# Altium footprint library ebf EP4CE10 Pro_20200309_PCB库_AD格式.PcbLib: 62 footprints (part 4 of 4)
Each footprint in its own frame and in the unit in brackets; x right, y up, seen from the top. Pads: shape width x height; smd on the part's side, far side on the other; paste and mask are expansions set on the pad; w line width, h text height; cw(c..) or ccw(c..) is an arc to the next point about the centre after c.
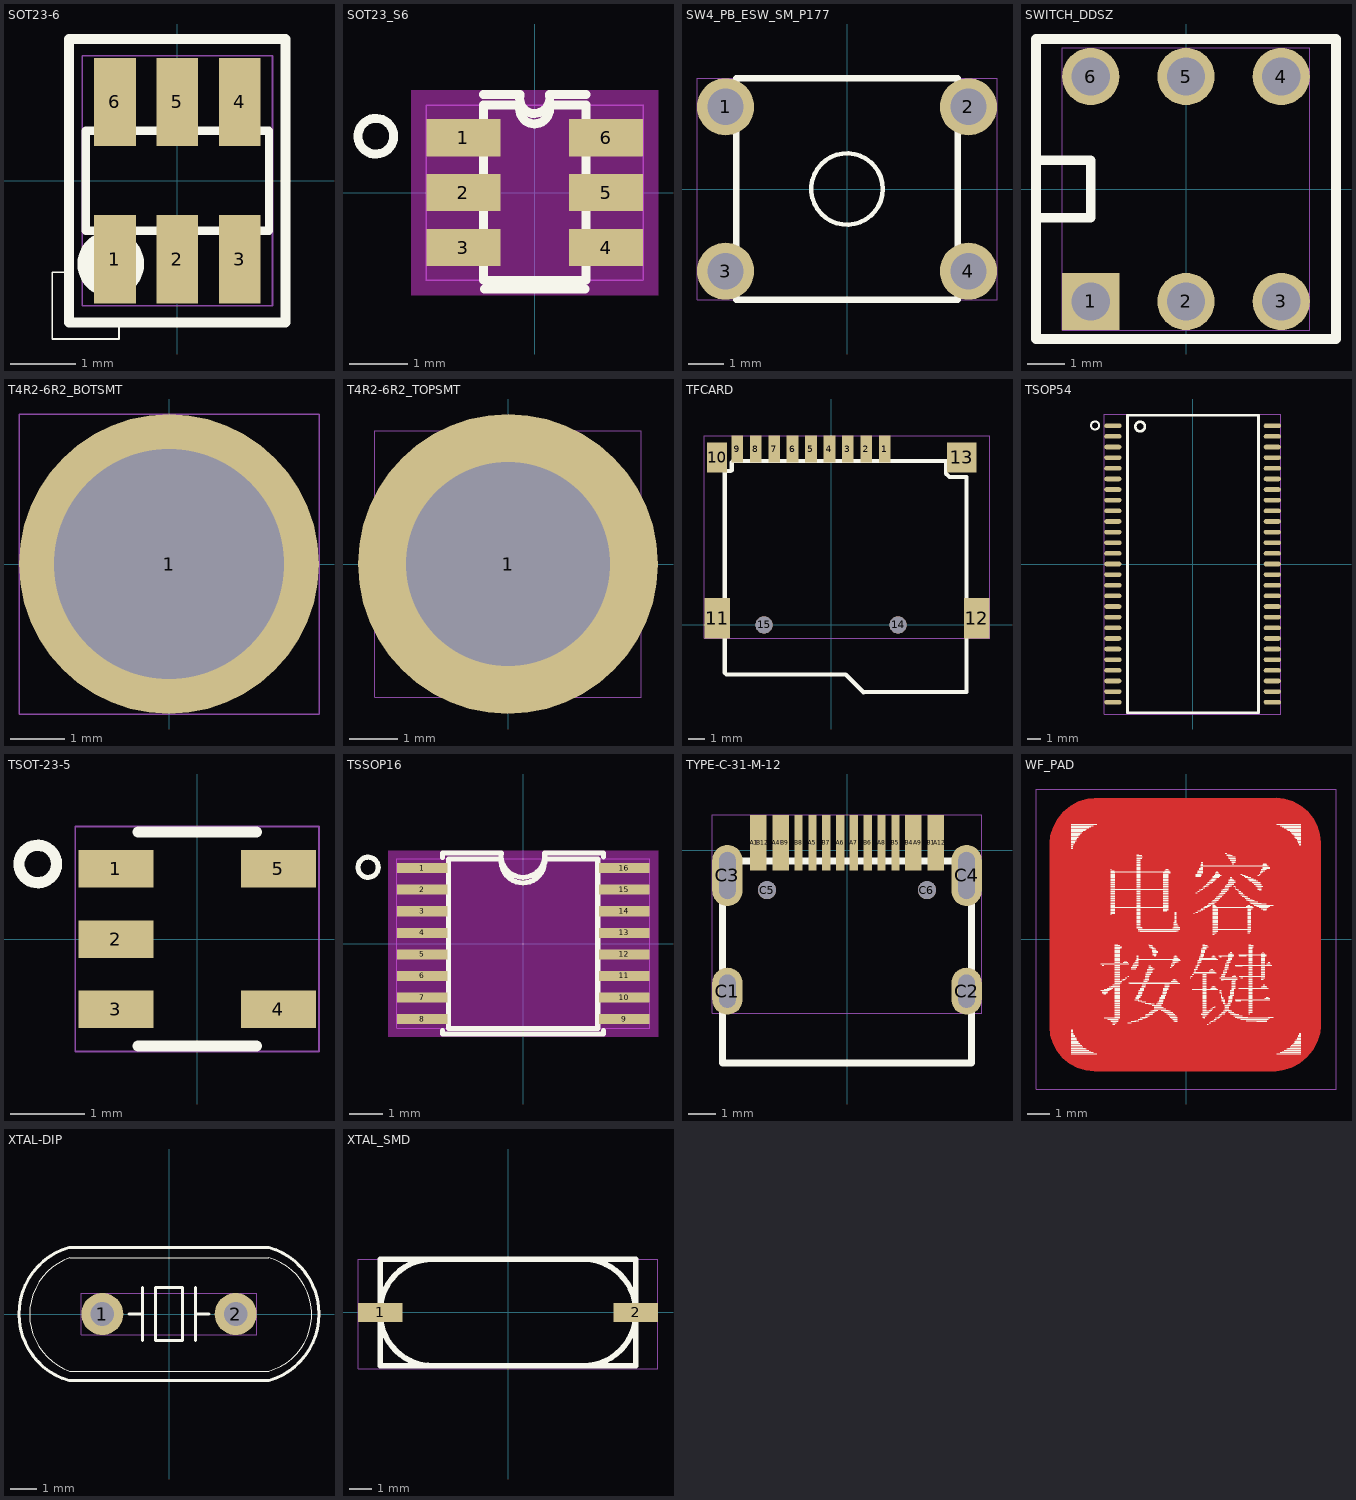
[diagram p3: the footprints below, top view; thin cyan lines are the x and y axes]

## SOT23-6 [mil]
pads (6):
  rect 25x53 smd mask+3: 1(-37.4,-47.2) 2(0,-47.2) 3(37.4,-47.2) 4(37.4,47.2) 5(0,47.2) 6(-37.4,47.2)
Top Overlay:
  circle w20: c-40,-50 r10
  lines w1: -75,-95 -35,-95 -35,-85 -65,-85 -65,-55 -75,-55 -75,-95
  lines w5: -45,-30 -45,-60 -30,-60 -30,-30 ; -45,30 -45,60 -30,60 -30,30 ; -7.5,-30 -7.5,-60 7.5,-60 7.5,-30 ; -7.5,30 -7.5,60 7.5,60 7.5,30 ; 30,-30 30,-60 45,-60 45,-30 ; 30,30 30,60 45,60 45,30 ; -55,-30 -55,30 55,30 55,-30 -55,-30
  lines w6: -65,-85 -65,85 65,85 65,-85 -65,-85
Top Assembly:
  text "U28" at -62.49,-25 h50
Mechanical 20:
  lines w1: -57.1,-75 -57.1,75 57.1,75 57.1,-75 -57.1,-75

## SOT23_S6 [mil]
pads (6):
  rect 50x25 smd mask+2: 1(-48,37) 2(-48,0) 3(-48,-37) 4(48,-37) 5(48,0) 6(48,37)
Top Layer keep-out:
  region: -83.1,-69 -83.1,69 83,69 83,-69
Top Overlay:
  circle w6: c-107.02,37.99 r12.02
  lines w6: -34.5,66 -10,66 ; -34,-65 34,-65 ; -10,58 ccw(c-0.2,56.25) -0.2,46.3 ccw(c-0.21,56.6) 10,58 9.8,58.3 ; -10,59 -34.5,59 -34.5,-59 34.5,-59 34.5,59 10,59 ; -10,65 ccw(c-0.2,63.25) -0.2,53.3 ccw(c-0.21,63.6) 10,65 9.8,65.3 ; 10,66 34.5,66
Top Assembly:
  text "U27" at -62.49,-25 h50
Mechanical 20:
  lines w1: -73,-59 -73,59 73,59 73,-59 -73,-59

## SW4_PB_ESW_SM_P177 [mil]
pads (4):
  round 63 hole 40 mask+2.5: 1(-133.9,90.6) 2(133.9,90.6) 3(-133.9,-90.6) 4(133.9,-90.6)
Top Overlay:
  circle w5: c0,0 r39.4
  lines w7: -122.1,-122.1 122.1,-122.1 122.1,122.1 -122.1,122.1 -122.1,-122.1
Top Assembly:
  text "SW5" at -67.72,-25 h50
Mechanical 20:
  lines w1: -165.4,-122.1 165.4,-122.1 165.4,122.1 -165.4,122.1 -165.4,-122.1

## SWITCH_DDSZ [mil]
pads (6):
  rect 60x60 / inner round 60 / far side rect 60x60 hole 40 mask+2.5: 1(-100,-118.1)
  round 60 hole 40 mask+2.5: 2(0,-118.1) 3(100,-118.1) 4(100,118.1) 5(0,118.1) 6(-100,118.1)
Top Overlay:
  lines w10: -157.5,-30 -100,-30 -100,30 -157.5,30 ; -157.5,-157.5 -157.5,157.5 157.5,157.5 157.5,-157.5 -157.5,-157.5
Top Assembly:
  text "SW6" at -66.53,-25 h50
Mechanical 20:
  lines w1: -130,-148.1 130,-148.1 130,148.1 -130,148.1 -130,-148.1

## T4R2-6R2_BOTSMT [mil]
pads (1):
  round 216.5 / inner round 216.5 / far side round 244.1 hole 166.1 mask+2: 1(0,0)
Top Assembly:
  text "H9" at -39.04,-25 h50
Mechanical 20:
  lines w1: -108.3,-108.3 108.3,-108.3 108.3,108.3 -108.3,108.3 -108.3,-108.3

## T4R2-6R2_TOPSMT [mil]
pads (1):
  round 244.1 / inner round 216.5 / far side round 216.5 hole 166.1 mask+2: 1(0,0)
Top Assembly:
  text "H4" at -41.42,-25 h50
Mechanical 20:
  lines w1: -108.3,-108.3 108.3,-108.3 108.3,108.3 -108.3,108.3 -108.3,-108.3

## TFCARD [mil]
pads (15):
  rect 27.6x63 smd mask+1.95: 1(126,413.4) 2(82.7,413.4) 3(39.4,413.4) 4(-3.9,413.4) 5(-47.3,413.4) 6(-90.6,413.4) 7(-133.9,413.4) 8(-177.2,413.4) 9(-220.5,413.4)
  rect 47.2x70 smd mask+1.95: 10(-267.7,393.7)
  rect 60x95 smd mask+1.95: 11(-267.7,15.7) 12(342.5,15.7)
  rect 70x70 smd mask+1.95: 13(307.1,393.7)
  round 40 hole 40 unplated mask+2.5: 14(157.5,0) 15(-157.5,0)
Top Overlay:
  lines w10: -251.7,361.7 -235.7,361.7 -233.7,363.7 -233.7,381.7 -229.7,385.7 270.3,385.7 270.3,355.7 278.3,347.7 318.3,347.7 318.3,-157.5 76.3,-158.3 34.3,-116.3 -245.7,-116.3 -249.7,-112.3 -249.7,359.7 -251.7,361.7
Top Assembly:
  text "J10" at -53.32,-25 h50
Mechanical 20:
  lines w1: -297.7,-31.7 372.5,-31.7 372.5,444.9 -297.7,444.9 -297.7,-31.7

## TSOP54 [mil]
pads (54):
  oval 51.2x13.8 smd mask+1.95: 1(-236.2,409.4) 2(-236.2,377.9) 3(-236.2,346.5) 4(-236.2,315) 5(-236.2,283.5) 6(-236.2,252) 7(-236.2,220.5) 8(-236.2,189) 9(-236.2,157.5) 10(-236.2,126) 11(-236.2,94.5) 12(-236.2,63) 13(-236.2,31.5) 14(-236.2,0) 15(-236.2,-31.5) 16(-236.2,-63) 17(-236.2,-94.5) 18(-236.2,-126) 19(-236.2,-157.5) 20(-236.2,-189) 21(-236.2,-220.5) 22(-236.2,-252) 23(-236.2,-283.5) 24(-236.2,-315) 25(-236.2,-346.5) 26(-236.2,-377.9) 27(-236.2,-409.4) 28(236.2,-409.4) 29(236.2,-377.9) 30(236.2,-346.5) 31(236.2,-315) 32(236.2,-283.5) 33(236.2,-252) 34(236.2,-220.5) 35(236.2,-189) 36(236.2,-157.5) 37(236.2,-126) 38(236.2,-94.5) 39(236.2,-63) 40(236.2,-31.5) 41(236.2,0) 42(236.2,31.5) 43(236.2,63) 44(236.2,94.5) 45(236.2,126) 46(236.2,157.5) 47(236.2,189) 48(236.2,220.5) 49(236.2,252) 50(236.2,283.5) 51(236.2,315) 52(236.2,346.5) 53(236.2,377.9) 54(236.2,409.4)
Top Overlay:
  circle w7.9: c-155.51,407.09 r14.21
  circle w6: c-288.86,410.38 r12.06
  lines w7.9: -192.9,-440.9 195.3,-440.9 ; -192.9,-440.9 -192.9,440.9 ; -192.9,-440.9 195.3,-440.9 ; -192.9,-440.9 -192.9,440.9 ; -192.9,440.9 195.3,440.9 ; -192.9,440.9 195.3,440.9 ; 195.3,-440.9 195.3,440.9 ; 195.3,-440.9 195.3,440.9
Top Assembly:
  text "U7" at -40.23,-25 h50
Mechanical 20:
  lines w1: -261.8,-444.3 -261.8,444.3 261.8,444.3 261.8,-444.3 -261.8,-444.3

## TSOT-23-5 [mil]
pads (5):
  rect 40x20 smd mask+2.5: 1(-43.3,37.4) 2(-43.3,0) 3(-43.3,-37.4) 4(43.3,-37.4) 5(43.3,37.4)
Top Overlay:
  circle w6: c-85,40 r10
  lines w6: -31.5,-57.1 31.5,-57.1 -31.5,-57.1 ; -31.5,57.1 31.5,57.1 -31.5,57.1
Top Assembly:
  text "U5" at -40.23,-25 h50
Mechanical 20:
  lines w1: -65,-60 -65,60 65,60 65,-60 -65,-60

## TSSOP16 [mil]
pads (16):
  rect 60x12 smd mask+2: 1(-120,89.6) 2(-120,64) 3(-120,38.4) 4(-120,12.8) 5(-120,-12.8) 6(-120,-38.4) 7(-120,-64) 8(-120,-89.6) 9(120,-89.6) 10(120,-64) 11(120,-38.4) 12(120,-12.8) 13(120,12.8) 14(120,38.4) 15(120,64) 16(120,89.6)
Top Layer keep-out:
  region: -160,-110.5 -160,110.5 160,110.5 160,-110.5
Top Overlay:
  circle w6: c-184.02,90.59 r12.02
  lines w6: -95.5,-103 -95.5,-107.5 95.5,-107.5 95.5,-103 ; -95.5,102.5 -95.5,107.5 -26.3,107.5 ; -26,100.5 ccw(c-0.25,97.88) 25.5,100.5 88.5,100.5 88.5,-100.5 -88.5,-100.5 -88.5,100.5 -25.5,100.5 ; -26,107.52 ccw(c-0.25,104.63) 25.5,107.47 ; 25.5,107.5 95.5,107.5 95.5,103
Top Assembly:
  text "U25" at -62.49,-25 h50
Mechanical 20:
  lines w1: -150,-100.5 150,-100.5 150,100.5 -150,100.5 -150,-100.5

## TYPE-C-31-M-12 [mil]
pads (22):
  rect 11.8x78.7 smd mask+2: A1(-131.9,10.8) A4(-100.4,10.8) A5(-49.2,10.8) A6(-9.8,10.8) A7(9.8,10.8) A8(49.2,10.8) A9(100.4,10.8) A12(131.9,10.8) B1(120.1,10.8) B4(88.6,10.8) B5(68.9,10.8) B6(29.5,10.8) B7(-29.5,10.8) B8(-68.9,10.8) B9(-88.6,10.8) B12(-120.1,10.8)
  oval 43.3x66.9 hole 23.6 slot 47.2 at 90 deg mask+2: C1(-170.1,-200.6) C2(170.1,-200.6)
  oval 43.3x86.6 hole 23.6 slot 66.9 at 90 deg mask+2: C3(-170.1,-36) C4(170.1,-36)
  round 25.6 hole 25.6 unplated mask+1.95: C5(-113.8,-56.9) C6(113.8,-56.9)
Top Overlay:
  lines w10: -177.2,-302.9 -177.2,-15.6 177.2,-15.6 177.2,-302.9 -177.2,-302.9
Top Assembly:
  text "J1" at -24.28,-25 h50
Mechanical 20:
  lines w1: -191.7,-232.1 -191.7,50.2 191.7,50.2 191.7,-232.1 -191.7,-232.1

## WF_PAD [mil]
Top Layer:
  region: -241.28,170.87 -240.12,182.57 -235.35,198.32 -227.59,212.83 -217.15,225.55 -204.44,235.99 -189.92,243.74 -174.18,248.52 -162.47,249.67 -162.4,249.6 159.77,249.88 174.19,248.46 189.27,243.88 203.17,236.45 215.35,226.46 225.35,214.27 232.78,200.38 237.35,185.3 238.77,170.88 238.5,170.9 238.54,-155.17 237.47,-166.01 232.63,-181.97 224.77,-196.68 214.18,-209.58 201.29,-220.16 186.58,-228.03 170.61,-232.87 159.77,-233.94 159.8,-233.9 -162.39,-234.25 -177.62,-232.75 -192.53,-228.23 -206.27,-220.89 -218.31,-211 -228.19,-198.96 -235.54,-185.22 -240.06,-170.32 -241.54,-155.23 -241.2,-155.2 -241.2,170.9
Top Overlay:
  drawing of 867 lines, arcs and shapes, not listed
Top Assembly:
  text "TPAD2" at -105.69,-25 h50
Mechanical 20:
  lines w1: -265.7,-265.7 265.7,-265.7 265.7,265.7 -265.7,265.7 -265.7,-265.7

## XTAL-DIP [mil]
pads (2):
  round 63 hole 35.4 mask+2: 1(-100,0) 2(100,0)
Top Overlay:
  lines w1: -148.73,-85.69 cw(c-118.93,-0.6) -148.73,84.49 ; -148.7,-85.7 149.5,-85.7 ; -148.7,84.5 149.5,84.5 ; 149.47,-85.71 ccw(c125.86,-0.6) 149.47,84.51
  lines w4.7: -150.08,99.98 ccw(c-120.85,0) -149.91,-100.03 ; -150,-100 150,-100 ; -150,100 150,100 ; -60,0 -40,0 ; -40,-40 -40,40 ; 40,-40 40,40 ; 40,0 60,0 ; 149.91,100.03 cw(c120.85,0) 150.08,-99.98 ; -20,-40 20,-40 20,40 -20,40 -20,-40
Top Assembly:
  text "Y2" at -38.92,-25 h50
Mechanical 20:
  lines w1: -131.5,-31.5 131.5,-31.5 131.5,31.5 -131.5,31.5 -131.5,-31.5

## XTAL_SMD [mil]
pads (2):
  rect 78.7x33.5 smd mask+2: 1(-226.4,0) 2(226.4,0)
Top Overlay:
  lines w10: -226.4,-2.7 -226.4,0 ; -226.4,-2.66 ccw(c-133.26,-1.36) -131.96,-94.5 ; -226.4,0.06 cw(c-133.26,1.36) -134.56,94.5 ; 131.97,94.5 cw(c133.27,1.37) 226.4,2.67 ; 134.57,-94.5 ccw(c133.27,-1.37) 226.4,-0.07 ; 226.4,0 226.4,2.7 ; -226.4,-94.5 226.4,-94.5 226.4,94.5 -226.4,94.5 -226.4,-94.5
Top Assembly:
  text "Y1" at -28.21,-25 h50
Mechanical 20:
  lines w1: -265.7,-100 -265.7,94.5 265.7,94.5 265.7,-100 -265.7,-100